# EAGLE library part NT3H1101 (library business_card)
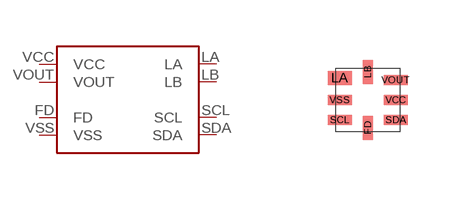
[diagram p0: symbol with the pads of XQFN8; footprint XQFN8]

Designator prefix -

## NT3H1101  [XQFN8]
FD  FD
LA  LA
LB  LB
SCL  SCL
SDA  SDA
VCC  VCC
VOUT  VOUT
VSS  VSS

## Footprint XQFN8 (pad centres in mm)
smd 0.25 x 0.6: FD 0,-0.7; LB 0,0.7
smd 0.6 x 0.35: LA -0.7,0.55
smd 0.6 x 0.25: SCL -0.7,-0.5; SDA 0.7,-0.5; VCC 0.7,0; VOUT 0.7,0.5; VSS -0.7,0